# EAGLE library part RELAY-2-SRD (library buckstepdown)
2-Channel Relay Module based on SRD-05VDC-SL-C relays Click here to find device on ebay.com <http://www.ebay.com/sch/two+channel+relay+module+optocoupler+5v>
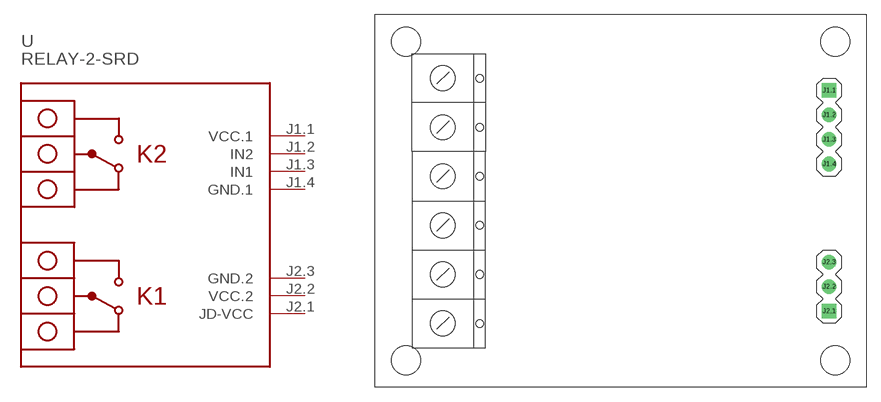
[diagram p17: symbol with the pads of RELAY-2-SRD; footprint RELAY-2-SRD]

Designator prefix -

## RELAY-2-SRD  [RELAY-2-SRD]
J1.1  VCC.1  pwr
J1.2  IN2
J1.3  IN1
J1.4  GND.1  pwr
J2.1  JD-VCC
J2.2  VCC.2  pwr
J2.3  GND.2  pwr

## Footprint RELAY-2-SRD (pad centres in mm)
2-Channel Relay Module based on SRD-05VDC-SL-C relays
drill 1 square: J1.1 21.59,11.43; J2.1 21.59,-11.43
drill 1: J1.2 21.59,8.89; J1.3 21.59,6.35; J1.4 21.59,3.81; J2.2 21.59,-8.89; J2.3 21.59,-6.35
hole 3 at -22.225,16.51
hole 3 at 22.225,16.51
hole 3 at 22.225,-16.51
hole 3 at -22.225,-16.51